# Altium schematic symbol library react4.SchLib: 18 symbols
Pins are listed as number, name and electrical type; pins without a type are passive.

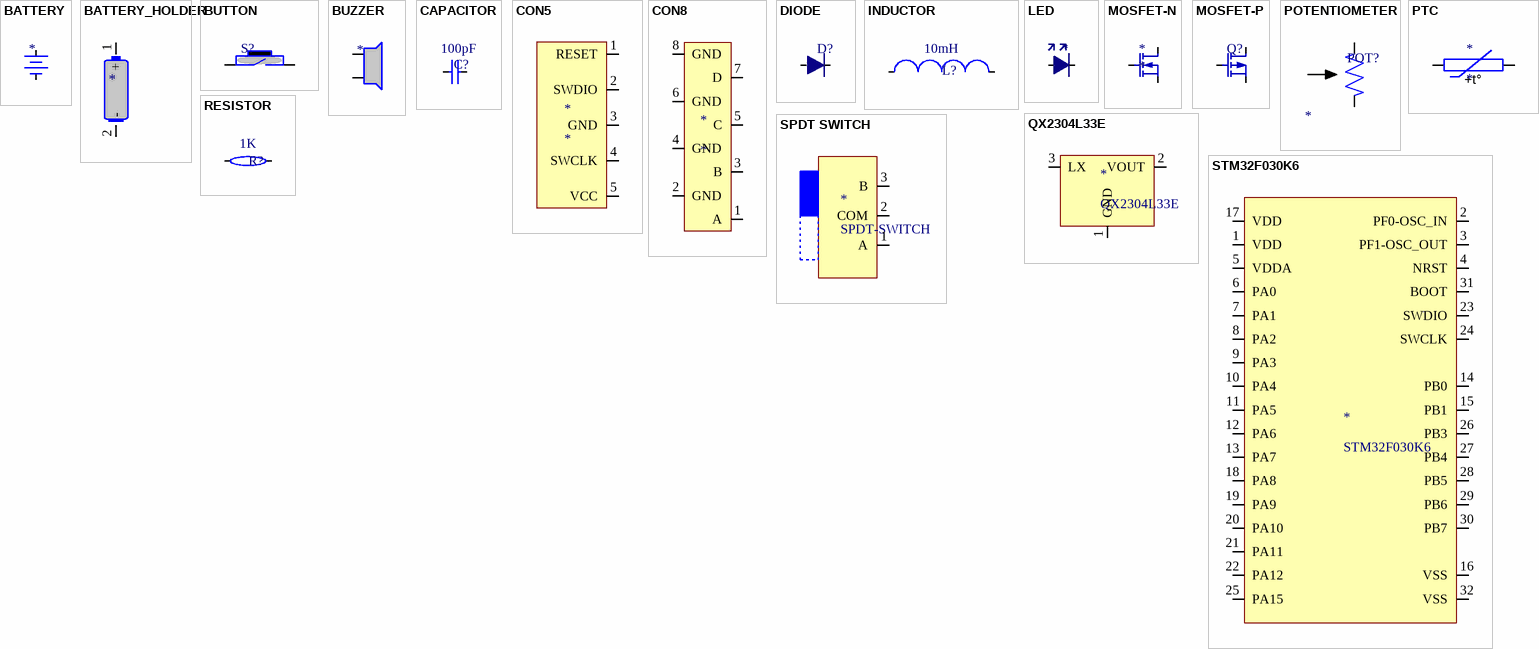
[diagram p0: symbols BATTERY to STM32F030K6]

## BATTERY
designator *  (value not drawn)  (no BOM)
footprint BATTERY_CONNECTOR
pins: 1 NEGATIVE (power), 2 POSITIVE (power)

## BATTERY_HOLDER
designator *  (value not drawn)
footprint BATTERY_HOLDER_KEYSTONE_2460
pins: 1 + (power), 2 - (power)

## BUTTON
designator S?  (value not drawn)
footprint BUTTON_BLUE
footprint BUTTON_GREEN
footprint BUTTON_RED
footprint BUTTON_YELLOW
pins: 1 (power), 2 (power)

## BUZZER
designator *  (value not drawn)
3V 12mm piezo buzzer
footprint PIEZO_BUZZER (Piezo buzzer)
pins: 1, 2

## CAPACITOR
designator C?  value 100pF  (hidden comment: CAPACITOR)
footprint CAPC_1206_3216X16L (Chip Capacitor 1206)
footprint CAPC_0603_1608X08L (Chip Capacitor 0603)
footprint CAPC3224X25L (Chip Capacitor, 2-Leads, Body 3.20x2.45mm, IPC High Density)
pins: 1, 2

## CON5
designator *  (no BOM)
footprint CON5
pins: 1 RESET (power), 2 SWDIO (power), 3 GND (power), 4 SWCLK (power), 5 VCC (power)

## CON8
designator *
2 x 4 2.54mm IDC board connector
footprint CON8 (0.1 inch 8 way)
pins: 1 A (power), 2 GND (power), 3 B (power), 4 GND (power), 5 C (power), 6 GND (power), 7 D (power), 8 GND (power)

## DIODE
designator D?  (value not drawn)
Any old diode 20v 500mA
footprint SODFL250X100-2L (SODFL, 2-Leads, Body 1.25x2.50mm, IPC High Density)
pins: 1 C, 2 A

## INDUCTOR
designator L?  value 10mH
Inductor
footprint INDC3216X09L (Chip Inductor, 2-Leads, Body 3.20x1.60mm, IPC High Density)
footprint Chip2PinSM127P600-8N (Inductor 0805)
pins: 1, 2

## LED
designator *  (value not drawn)
5mm through hole LED
footprint LED GREEN (5MM through hole LED)
footprint LED RED (5MM through hole LED)
footprint LED WHITE (5MM through hole LED)
footprint LED BLUE (5MM through hole LED)
footprint LED YELLOW (5MM through hole LED)
pins: 1 C, 2 A

## MOSFET-N
designator *
footprint SOT95P230X110-3L (SOT23, 3-Leads, Body 2.90x2.30mm, Pitch 0.95mm, IPC High Density)
pins: 1 G, 2 S, 3 D

## MOSFET-P
designator Q?, comment NX2301P  (value not drawn)
P-MOSFET -20V -2A 400mW NX2301P or equivalent; Value: NX2301P
footprint SOT95P237X110-3L (SOT23, 3-Leads, Body 2.90x2.37mm, Pitch 0.95mm, IPC High Density)
pins: 1 G, 2 S, 3 D

## POTENTIOMETER
designator POT?
10K audio pot 16x2mm thumbwheel; Value: *
footprint POTENTIOMETER (B103 thumbwheel pot 16x2)
pins: 1 (power), 2 (power), 3 (power)

## PTC
designator *
footprint PTC1608X05L_0603 (PTC, 2-Leads, Body 1.60x0.80mm, IPC High Density)
pins: 1 (power), 2 (power)
text: +t°

## QX2304L33E
designator *
3.3v boost regulator 1A 0.5W; Value: QX2304L33E
footprint SOT89-150P350X160-3L (SOT89, 3-Leads, Body 4.50x2.45mm, Pitch 1.50mm, Lead Span 3.5mm, IPC High Density)
pins: 1 GND (power), 2 VOUT (power), 3 LX (power)

## RESISTOR
designator R?, comment value 1K  (hidden comment: Resistor)
footprint RESC_0603_1608X08L (Chip Resistor, 2-Leads, Body 1.60x0.80mm, IPC High Density)
footprint RESC6432X12L (Chip Resistor, 2-Leads, Body 6.35x3.20mm, IPC High Density)
pins: 1, 2

## SPDT SWITCH
designator *, comment SPDT-SWITCH
DIP,9.1x3.5x3.5mm Toggle Switch; Value: SPDT-SWITCH
footprint MK-12D18 (SPDT Side mount through hole power 0.5A switch)
pins: 1 A (power), 2 COM (power), 3 B (power)

## STM32F030K6
designator *
STM32F030K6 QFP32 48MHz; Value: STM32F030K6
footprint TQFP80P900X900X160-32L (TQFP, 32-Leads, Body 7.00x7.00mm, Pitch 0.80mm, IPC High Density)
pins: 1 VDD (power), 2 PF0-OSC_IN (power), 3 PF1-OSC_OUT (power), 4 NRST (power), 5 VDDA (power), 6 PA0 (power), 7 PA1 (power), 8 PA2 (power), 9 PA3 (power), 10 PA4 (power), 11 PA5 (power), 12 PA6 (power), 13 PA7 (power), 14 PB0 (power), 15 PB1 (power), 16 VSS (power), 17 VDD (power), 18 PA8 (power), 19 PA9 (power), 20 PA10 (power), 21 PA11 (power), 22 PA12 (power), 23 SWDIO (power), 24 SWCLK (power), 25 PA15 (power), 26 PB3 (power), 27 PB4 (power), 28 PB5 (power), 29 PB6 (power), 30 PB7 (power), 31 BOOT (power), 32 VSS (power)